# Altium schematic symbol library pmeg3020dep.SchLib: 1 symbol
Pins are listed as number, name and electrical type; pins without a type are passive.

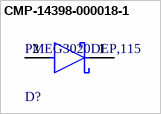
[diagram p0: symbol CMP-14398-000018-1]

## CMP-14398-000018-1
designator D?, comment PMEG3020DEP,115
DIODE SCHOTTKY 30V 2A SOD128
footprint FP-SOD128-MFG
pins: 1 C, 2 A